# Altium schematic symbol library LMV358.SCHLIB: 1 symbol
Pins are listed as number, name and electrical type; pins without a type are passive.

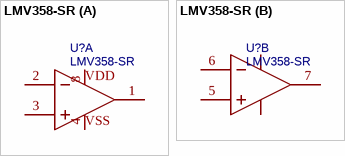
[diagram p0: symbol LMV358-SR]

## LMV358-SR
designator U?
BOM_Manufacturer: Gainsil; subpart_no: 2; BOM_Supplier: LCSC; BOM_Supplier Part: C362274; BOM_Manufacturer Part: LMV358-SR; BOM_JLCPCB Part Class: Extended Part; spicePre: U; spiceSymbolName: LMV358-SR
footprint SOP-8_L4.9-W3.9-P1.27-LS6.0-BL
part A pins: 1 OUTA, 2 INA-, 3 INA+, 4 VSS (power), 8 VDD (power)
part B pins: 5 INB+, 6 INB-, 7 OUTB